# Altium footprint library PCB - CONNECTOR - SAMTEC TSW-110-07-F-T.PCBLIB: 1 footprints
Each footprint in its own frame and in the unit in brackets; x right, y up, seen from the top. Pads: shape width x height; smd on the part's side, far side on the other; paste and mask are expansions set on the pad; w line width, h text height; cw(c..) or ccw(c..) is an arc to the next point about the centre after c.
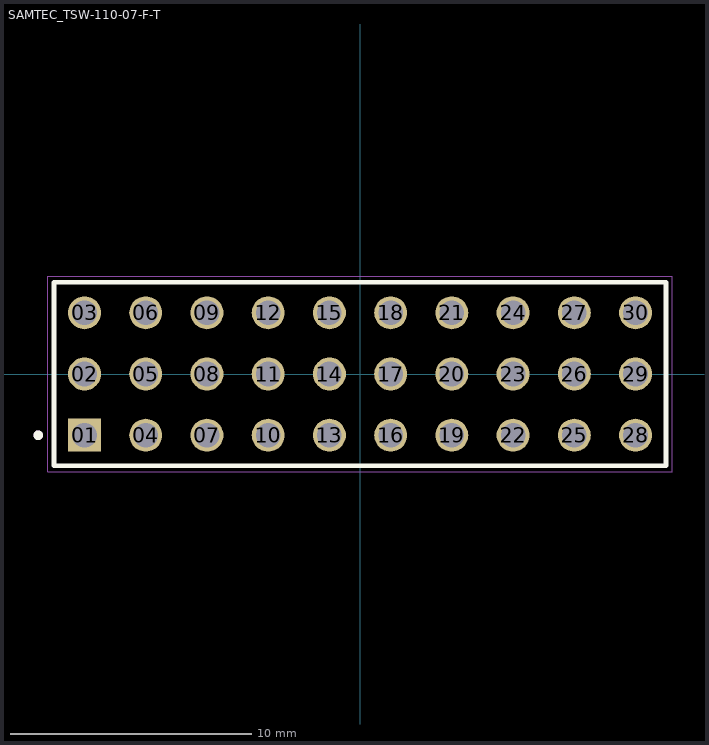
[diagram p0: the footprint, top view; thin cyan lines are the x and y axes]

## SAMTEC_TSW-110-07-F-T [mm]
pads (30):
  rect 1.37x1.37 hole 1.02: 01(-11.43,-2.54)
  round 1.37 hole 1.02: 02(-11.43,0) 03(-11.43,2.54) 04(-8.89,-2.54) 05(-8.89,0) 06(-8.89,2.54) 07(-6.35,-2.54) 08(-6.35,0) 09(-6.35,2.54) 10(-3.81,-2.54) 11(-3.81,0) 12(-3.81,2.54) 13(-1.27,-2.54) 14(-1.27,0) 15(-1.27,2.54) 16(1.27,-2.54) 17(1.27,0) 18(1.27,2.54) 19(3.81,-2.54) 20(3.81,0) 21(3.81,2.54) 22(6.35,-2.54) 23(6.35,0) 24(6.35,2.54) 25(8.89,-2.54) 26(8.89,0) 27(8.89,2.54) 28(11.43,-2.54) 29(11.43,0) 30(11.43,2.54)
Top Overlay:
  circle w0.2: c-13.35,-2.54 r0.1
  lines w0.2: -12.7,-3.81 -12.7,3.81 12.7,3.81 12.7,-3.81 -12.7,-3.81
Top Assembly:
  circle w0.2: c-13.35,-2.54 r0.1
  lines w0.1: -12.7,-3.81 12.7,-3.81 ; -12.7,-3.81 -12.7,3.81 ; -12.7,-3.81 -12.7,3.81 ; -12.7,3.81 12.7,3.81 ; -12.7,3.81 12.7,3.81 ; 12.7,-3.81 12.7,3.81 ; 12.7,-3.81 12.7,3.81
Top Courtyard:
  lines w0.05: -12.95,-4.06 -12.95,4.06 12.95,4.06 12.95,-4.06 -12.95,-4.06
Top Designator:
  text ".Designator" at -12.921,-5.052 h1
Top Value (Mech13):
  text ".Comment" at 8.763,-4.942 h1